# EAGLE library part TXS0102 (library JoesCustom)
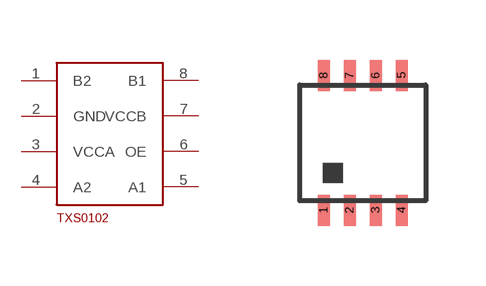
[diagram p3: symbol with the pads of SM8; footprint SM8]

Designator prefix -

## TXS0102  [SM8]
1  B2
2  GND
3  VCCA
4  A2
5  A1
6  OE
7  VCCB
8  B1

## Footprint SM8 (pad centres in mm)
smd 0.3 x 0.775: 1 -0.975,-1.688; 2 -0.325,-1.688; 3 0.325,-1.688; 4 0.975,-1.688; 5 0.975,1.688; 6 0.325,1.688; 7 -0.325,1.688; 8 -0.975,1.688